# Altium footprint library Potentiometer_THT.PcbLib: 106 footprints (part 5 of 7)
Each footprint in its own frame and in the unit in brackets; x right, y up, seen from the top. Pads: shape width x height; smd on the part's side, far side on the other; paste and mask are expansions set on the pad; w line width, h text height; cw(c..) or ccw(c..) is an arc to the next point about the centre after c.
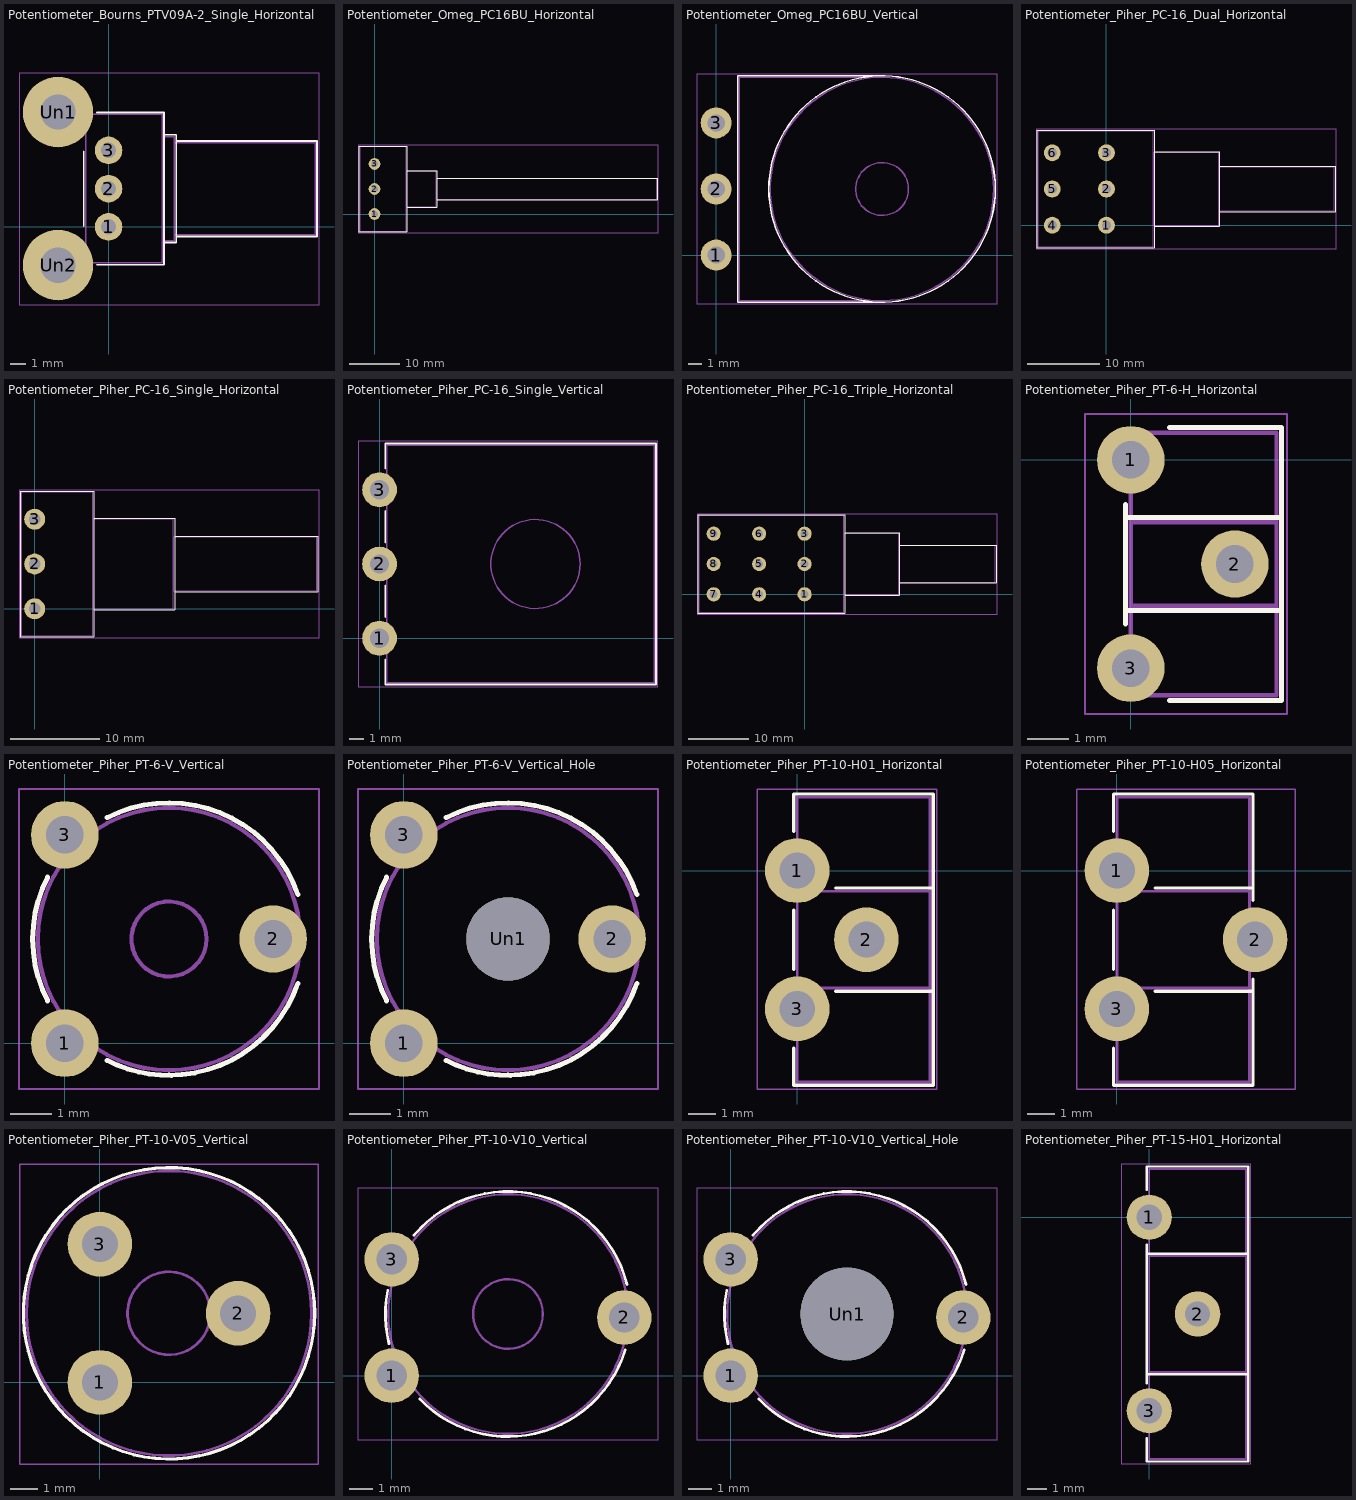
[diagram p4: the footprints below, top view; thin cyan lines are the x and y axes]

## Potentiometer_Bourns_PTV09A-2_Single_Horizontal [mm]
pads (5):
  round 1.8 hole 1: 1(0,0) 2(0,2.5) 3(0,5)
  round 4.6 hole 2.3: Un1(-3.3,7.5) Un2(-3.3,-2.5)
F.SilkS:
  lines w0.12: -1.62,0.055 -1.62,4.944 ; -0.745,-2.47 3.62,-2.47 3.62,7.47 -0.745,7.47 ; 3.62,-1.02 4.42,-1.02 4.42,6.02 3.62,6.02 3.62,-1.02 ; 4.42,-0.62 4.42,5.62 13.62,5.62 13.62,-0.62 4.42,-0.62
F.CrtYd:
  lines w0.05: -5.85,-5.1 13.75,-5.1 13.75,10.05 -5.85,10.05 -5.85,-5.1
F.Fab:
  lines w0.1: -1.5,-2.35 3.5,-2.35 3.5,7.35 -1.5,7.35 -1.5,-2.35 ; 3.5,-0.9 3.5,5.9 4.3,5.9 4.3,-0.9 3.5,-0.9 ; 4.3,-0.5 4.3,5.5 13.5,5.5 13.5,-0.5 4.3,-0.5
  text "'.Designator'" at -3.047,1.66 h1

## Potentiometer_Omeg_PC16BU_Horizontal [mm]
pads (3):
  round 2.34 hole 1.3: 1(0,0) 2(0,5) 3(0,10)
F.SilkS:
  lines w0.12: -3.121,-3.57 6.42,-3.57 6.42,13.57 -3.121,13.57 -3.121,-3.57 ; 6.42,1.38 6.42,8.62 12.42,8.62 12.42,1.38 6.42,1.38 ; 12.42,2.88 12.42,7.12 56.42,7.12 56.42,2.88 12.42,2.88
F.CrtYd:
  lines w0.05: -3.3,-3.7 -3.3,13.7 56.55,13.7 56.55,-3.7 -3.3,-3.7
F.Fab:
  lines w0.1: -3,-3.45 -3,13.45 6.3,13.45 6.3,-3.45 -3,-3.45 ; 6.3,1.5 12.3,1.5 12.3,8.5 6.3,8.5 6.3,1.5 ; 12.3,3 12.3,7 56.3,7 56.3,3 12.3,3
  text "'.Designator'" at -2.397,4.16 h1

## Potentiometer_Omeg_PC16BU_Vertical [mm]
pads (3):
  round 2.34 hole 1.3: 1(0,0) 2(0,5) 3(0,10)
F.SilkS:
  circle w0.12: c12.55,5 r8.57
  lines w0.12: 12.55,-3.57 1.63,-3.57 1.63,13.57 12.55,13.57
F.CrtYd:
  lines w0.05: -1.45,-3.7 -1.45,13.7 21.25,13.7 21.25,-3.7 -1.45,-3.7
F.Fab:
  circle w0.1: c12.55,5 r2
  circle w0.1: c12.55,5 r8.45
  lines w0.1: 12.55,-3.45 1.75,-3.45 1.75,13.45 12.55,13.45
  text "'.Designator'" at 3.59,0.953 h1

## Potentiometer_Piher_PC-16_Dual_Horizontal [mm]
pads (6):
  round 2.34 hole 1.3: 1(0,0) 2(0,5) 3(0,10) 4(-7.5,0) 5(-7.5,5) 6(-7.5,10)
F.SilkS:
  lines w0.12: -9.62,-3.12 6.62,-3.12 6.62,13.12 -9.62,13.12 -9.62,-3.12 ; 6.62,-0.12 15.62,-0.12 15.62,10.12 6.62,10.12 6.62,-0.12 ; 15.62,1.879 31.62,1.879 31.62,8.12 15.62,8.12 15.62,1.879
F.CrtYd:
  lines w0.05: -9.75,-3.25 31.75,-3.25 31.75,13.25 -9.75,13.25 -9.75,-3.25
F.Fab:
  lines w0.1: -9.5,-3 6.5,-3 6.5,13 -9.5,13 -9.5,-3 ; 6.5,0 15.5,0 15.5,10 6.5,10 6.5,0 ; 15.5,2 15.5,8 31.5,8 31.5,2 15.5,2
  text "'.Designator'" at -5.547,4.16 h1

## Potentiometer_Piher_PC-16_Single_Horizontal [mm]
pads (3):
  round 2.34 hole 1.3: 1(0,0) 2(0,5) 3(0,10)
F.SilkS:
  lines w0.12: -1.62,-3.12 6.62,-3.12 6.62,13.12 -1.62,13.12 -1.62,-3.12 ; 6.62,-0.12 15.62,-0.12 15.62,10.12 6.62,10.12 6.62,-0.12 ; 15.62,1.879 15.62,8.12 31.62,8.12 31.62,1.879 15.62,1.879
F.CrtYd:
  lines w0.05: -1.75,-3.25 -1.75,13.25 31.75,13.25 31.75,-3.25 -1.75,-3.25
F.Fab:
  lines w0.1: -1.5,-3 6.5,-3 6.5,13 -1.5,13 -1.5,-3 ; 6.5,0 15.5,0 15.5,10 6.5,10 6.5,0 ; 15.5,2 15.5,8 31.5,8 31.5,2 15.5,2
  text "'.Designator'" at -1.547,4.16 h1

## Potentiometer_Piher_PC-16_Single_Vertical [mm]
pads (3):
  round 2.34 hole 1.3: 1(0,0) 2(0,5) 3(0,10)
F.SilkS:
  lines w0.12: 0.38,-1.425 0.38,-3.12 18.62,-3.12 18.62,13.12 0.38,13.12 0.38,11.426 ; 0.38,1.425 0.38,3.575 ; 0.38,6.425 0.38,8.574
F.CrtYd:
  lines w0.05: -1.45,-3.25 -1.45,13.25 18.75,13.25 18.75,-3.25 -1.45,-3.25
F.Fab:
  circle w0.1: c10.5,5 r3
  lines w0.1: 0.5,-3 18.5,-3 18.5,13 0.5,13 0.5,-3
  text "'.Designator'" at 2.34,0.953 h1

## Potentiometer_Piher_PC-16_Triple_Horizontal [mm]
pads (9):
  round 2.34 hole 1.3: 1(0,0) 2(0,5) 3(0,10) 4(-7.5,0) 5(-7.5,5) 6(-7.5,10) 7(-15,0) 8(-15,5) 9(-15,10)
F.SilkS:
  lines w0.12: -17.62,-3.12 6.62,-3.12 6.62,13.12 -17.62,13.12 -17.62,-3.12 ; 6.62,-0.12 6.62,10.12 15.62,10.12 15.62,-0.12 6.62,-0.12 ; 15.62,1.879 15.62,8.12 31.62,8.12 31.62,1.879 15.62,1.879
F.CrtYd:
  lines w0.05: -17.75,-3.25 -17.75,13.25 31.75,13.25 31.75,-3.25 -17.75,-3.25
F.Fab:
  lines w0.1: -17.5,-3 6.5,-3 6.5,13 -17.5,13 -17.5,-3 ; 6.5,0 15.5,0 15.5,10 6.5,10 6.5,0 ; 15.5,2 31.5,2 31.5,8 15.5,8 15.5,2
  text "'.Designator'" at -9.547,4.16 h1

## Potentiometer_Piher_PT-6-H_Horizontal [mm]
pads (3):
  round 1.62 hole 0.9: 1(0,0) 2(2.5,-2.5) 3(0,-5)
F.SilkS:
  lines w0.12: -0.121,-3.935 -0.121,-1.066 ; 0.925,-5.77 3.62,-5.77 3.62,0.77 0.925,0.77 ; -0.121,-3.62 -0.121,-1.38 3.62,-1.38 3.62,-3.62 -0.121,-3.62
F.CrtYd:
  lines w0.05: -1.1,-6.1 -1.1,1.1 3.75,1.1 3.75,-6.1 -1.1,-6.1
F.Fab:
  lines w0.1: 0,-5.65 3.5,-5.65 3.5,0.65 0,0.65 0,-5.65 ; 0,-3.5 3.5,-3.5 3.5,-1.5 0,-1.5 0,-3.5
  text "'.Designator'" at -1.439,-3.188 h0.78

## Potentiometer_Piher_PT-6-V_Vertical [mm]
pads (3):
  round 1.62 hole 0.9: 1(0,0) 2(5,2.5) 3(0,5)
F.SilkS:
  lines w0.12: -0.413,1.015 cw(c2.5,2.5) -0.414,3.984 ; 1.015,-0.414 ccw(c2.5,2.5) 2.557,-0.77 ; 1.016,5.414 cw(c2.5,2.5) 5.592,3.564 ; 2.5,-0.77 ccw(c2.5,2.5) 5.592,1.435
F.CrtYd:
  lines w0.05: -1.1,-1.1 -1.1,6.1 6.1,6.1 6.1,-1.1 -1.1,-1.1
F.Fab:
  circle w0.1: c2.5,2.5 r0.9
  circle w0.1: c2.5,2.5 r3.15
  text "'.Designator'" at 1.39,-1.547 h1

## Potentiometer_Piher_PT-6-V_Vertical_Hole [mm]
pads (4):
  round 1.62 hole 0.9: 1(0,0) 2(5,2.5) 3(0,5)
  round 2 hole 2: Un1(2.5,2.5)
F.SilkS:
  lines w0.12: -0.413,1.015 cw(c2.5,2.5) -0.414,3.984 ; 1.015,-0.414 ccw(c2.5,2.5) 2.557,-0.77 ; 1.016,5.414 cw(c2.5,2.5) 5.592,3.564 ; 2.5,-0.77 ccw(c2.5,2.5) 5.592,1.435
F.CrtYd:
  lines w0.05: -1.1,-1.1 -1.1,6.1 6.1,6.1 6.1,-1.1 -1.1,-1.1
F.Fab:
  circle w0.1: c2.5,2.5 r3.15
  text "'.Designator'" at 1.39,-1.547 h1

## Potentiometer_Piher_PT-10-H01_Horizontal [mm]
pads (3):
  round 2.34 hole 1.3: 1(0,0) 2(2.5,-2.5) 3(0,-5)
F.SilkS:
  lines w0.12: -0.121,-6.425 -0.121,-7.77 4.92,-7.77 4.92,2.771 -0.121,2.771 -0.121,1.426 ; 1.381,-4.37 4.92,-4.37 4.92,-0.63 1.381,-0.63 ; -0.121,-3.575 -0.121,-1.426 -0.121,-3.575
F.CrtYd:
  lines w0.05: -1.45,-7.9 5.05,-7.9 5.05,2.95 -1.45,2.95 -1.45,-7.9
F.Fab:
  lines w0.1: 0,-7.65 0,2.65 4.8,2.65 4.8,-7.65 0,-7.65 ; 0,-4.25 0,-0.75 4.8,-0.75 4.8,-4.25 0,-4.25
  text "'.Designator'" at -1.647,-3.34 h1

## Potentiometer_Piher_PT-10-H05_Horizontal [mm]
pads (3):
  round 2.34 hole 1.3: 1(0,0) 2(5,-2.5) 3(0,-5)
F.SilkS:
  lines w0.12: -0.121,-6.425 -0.121,-7.77 4.92,-7.77 4.92,-3.925 4.92,-4.37 1.381,-4.37 ; -0.121,1.426 -0.121,2.771 4.92,2.771 4.92,-1.075 4.92,-0.63 1.381,-0.63 ; -0.121,-3.575 -0.121,-1.426 -0.121,-3.575
F.CrtYd:
  lines w0.05: -1.45,-7.9 6.45,-7.9 6.45,2.95 -1.45,2.95 -1.45,-7.9
F.Fab:
  lines w0.1: 0,-7.65 4.8,-7.65 4.8,2.65 0,2.65 0,-7.65 ; 0,-4.25 0,-0.75 4.8,-0.75 4.8,-4.25 0,-4.25
  text "'.Designator'" at -1.647,-3.34 h1

## Potentiometer_Piher_PT-10-V05_Vertical [mm]
pads (3):
  round 2.34 hole 1.3: 1(0,0) 2(5,2.5) 3(0,5)
F.SilkS:
  circle w0.12: c2.501,2.5 r5.27
F.CrtYd:
  lines w0.05: -2.9,-2.95 7.9,-2.95 7.9,7.9 -2.9,7.9 -2.9,-2.95
F.Fab:
  circle w0.1: c2.5,2.5 r1.5
  circle w0.1: c2.5,2.5 r5.15
  text "'.Designator'" at -0.61,-1.547 h1

## Potentiometer_Piher_PT-10-V10_Vertical [mm]
pads (3):
  round 2.34 hole 1.3: 1(0,0) 2(10,2.5) 3(0,5)
F.SilkS:
  lines w0.12: -0.174,3.656 ccw(c5,2.65) -0.114,1.375 ; 0.963,6.038 cw(c5,2.65) 10.114,3.924 ; 1.209,-1.011 ccw(c5,2.65) 5.092,-2.619 ; 5,-2.62 ccw(c5,2.65) 10.04,1.109
F.CrtYd:
  lines w0.05: -1.45,-2.75 11.45,-2.75 11.45,8.05 -1.45,8.05 -1.45,-2.75
F.Fab:
  circle w0.1: c5,2.65 r5.15
  circle w0.1: c5,2.65 r1.5
  text "'.Designator'" at 1.89,-1.397 h1

## Potentiometer_Piher_PT-10-V10_Vertical_Hole [mm]
pads (4):
  round 2.34 hole 1.3: 1(0,0) 2(10,2.5) 3(0,5)
  round 4 hole 4: Un1(5,2.65)
F.SilkS:
  lines w0.12: -0.174,3.656 ccw(c5,2.65) -0.114,1.375 ; 0.963,6.038 cw(c5,2.65) 10.114,3.924 ; 1.209,-1.011 ccw(c5,2.65) 5.092,-2.619 ; 5,-2.62 ccw(c5,2.65) 10.04,1.109
F.CrtYd:
  lines w0.05: -1.45,-2.75 11.45,-2.75 11.45,8.05 -1.45,8.05 -1.45,-2.75
F.Fab:
  circle w0.1: c5,2.65 r5.15
  text "'.Designator'" at 1.89,-1.397 h1

## Potentiometer_Piher_PT-15-H01_Horizontal [mm]
pads (3):
  round 2.34 hole 1.3: 1(0,0) 2(2.5,-5) 3(0,-10)
F.SilkS:
  lines w0.12: -0.121,-11.425 -0.121,-12.62 5.12,-12.62 5.12,2.62 -0.121,2.62 -0.121,1.426 ; -0.121,-8.575 -0.121,-1.426 ; -0.121,-8.121 5.12,-8.121 5.12,-1.88 -0.121,-1.88 -0.121,-8.121
F.CrtYd:
  lines w0.05: -1.45,-12.75 -1.45,2.75 5.25,2.75 5.25,-12.75 -1.45,-12.75
F.Fab:
  lines w0.1: 0,-12.5 5,-12.5 5,2.5 0,2.5 0,-12.5 ; 0,-8 5,-8 5,-2 0,-2 0,-8
  text "'.Designator'" at -1.547,-5.84 h1